# EAGLE library part LMD18200 (library custom)
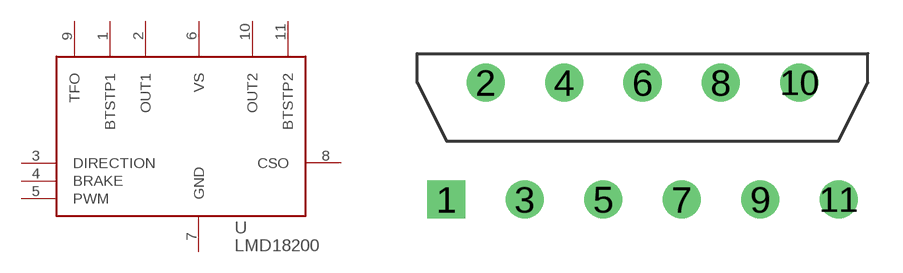
[diagram p0: symbol with the pads of TO-220-WIDE; footprint TO-220-WIDE]

Designator prefix U

## LMD18200  [TO-220-WIDE]
1  BTSTP1
2  OUT1  out
3  DIRECTION  in
4  BRAKE  in
5  PWM  in
6  VS  sup
7  GND  sup
8  CSO  out
9  TFO  out
10  OUT2  out
11  BTSTP2

## Footprint TO-220-WIDE (pad centres in mm)
drill 1.1 square: 1 0,0
drill 1.1 round: 2 1.702,5.08; 3 3.404,0; 4 5.105,5.08; 5 6.807,0; 6 8.509,5.08; 7 10.211,0; 8 11.913,5.08; 9 13.614,0; 10 15.316,5.08; 11 17.018,0